# EAGLE library part FLASH_W25Q64FVSSIG (library My_STM32)
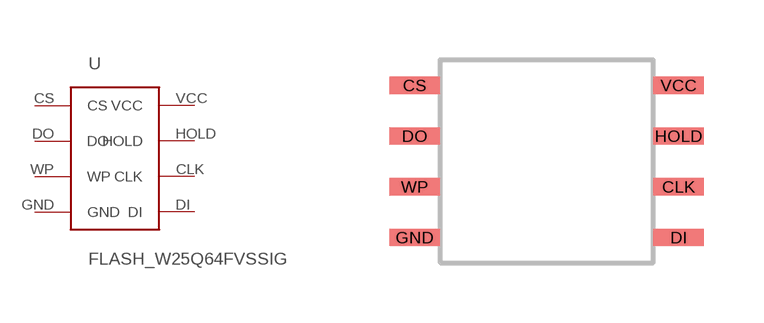
[diagram p2: symbol with the pads of FLASH_W25Q64FVSSIG; footprint FLASH_W25Q64FVSSIG]

Designator prefix -

## FLASH_W25Q64FVSSIG  [FLASH_W25Q64FVSSIG]
CLK  CLK
CS  CS
DI  DI
DO  DO
GND  GND
HOLD  HOLD
VCC  VCC
WP  WP

## Footprint FLASH_W25Q64FVSSIG (pad centres in mm)
smd 1.27 x 0.432: CLK 2.794,-1.27; CS -3.81,1.27; DI 2.794,-2.54; DO -3.81,0; GND -3.81,-2.54; HOLD 2.794,0; VCC 2.794,1.27; WP -3.81,-1.27